# EAGLE library part CY7C65213-28PVXI* (library cypress_usb-serial)
USB-UART LP Bridge Controller Features: USB 2.0 certified, Full-Speed (12 Mbps) Single-channel configurable UART interface General-purpose input/output (GPIO) pins: 8 Source: http://www.cypress.com/?docID=49680
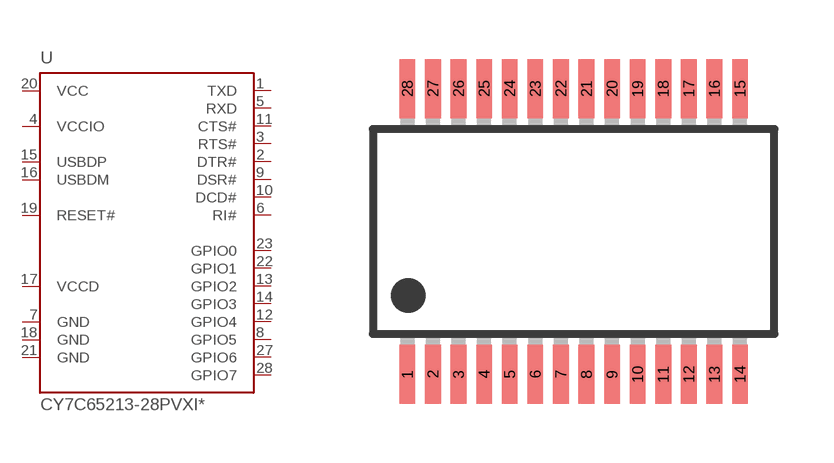
[diagram p2: symbol with the pads of SSOP28; footprint SSOP28]

Designator prefix -

## CY7C65213-28PVXI (MPN: CY7C65213-28PVXI; OC_DIGIKEY: unknown; OC_FARNELL: unknown; OC_MOUSER: 727-CY7C65213-28PVXI; OC_NEWARK: 46X1384; TAPE_REEL: NO), CY7C65213-28PVXIT (MPN: CY7C65213-28PVXIT; OC_DIGIKEY: unknown; OC_FARNELL: unknown; OC_MOUSER: 727-CY7C6521328PVXIT; OC_NEWARK: 66X1000; TAPE_REEL: YES)  [SSOP28]
1  TXD  out
2  DTR#  out
3  RTS#  out
4  VCCIO  pwr
5  RXD  in
6  RI#
7  GND  pwr
8  GPIO5
9  DSR#  in
10  DCD#  in
11  CTS#  in
12  GPIO4
13  GPIO2
14  GPIO3
15  USBDP
16  USBDM
17  VCCD  pwr
18  GND  pwr
19  RESET#  in
20  VCC  pwr
21  GND  pwr
22  GPIO1
23  GPIO0
27  GPIO6
28  GPIO7

## Footprint SSOP28 (pad centres in mm)
28-pin SSOP (10 × 7.5 × 1.65 mm, 0.65 mm pitch) Borrowed from ftdichip.lbr.
smd 0.4 x 1.5: 1 -4.225,-3.625; 2 -3.575,-3.625; 3 -2.925,-3.625; 4 -2.275,-3.625; 5 -1.625,-3.625; 6 -0.975,-3.625; 7 -0.325,-3.625; 8 0.325,-3.625; 9 0.975,-3.625; 10 1.625,-3.625; 11 2.275,-3.625; 12 2.925,-3.625; 13 3.575,-3.625; 14 4.225,-3.625; 15 4.225,3.625; 16 3.575,3.625; 17 2.925,3.625; 18 2.275,3.625; 19 1.625,3.625; 20 0.975,3.625; 21 0.325,3.625; 22 -0.325,3.625; 23 -0.975,3.625; 24 -1.625,3.625; 25 -2.275,3.625; 26 -2.925,3.625; 27 -3.575,3.625; 28 -4.225,3.625